# EAGLE library part 10129378-91002BLF (library 10129378-91002BLF-CN5)
MOLEX - 22-28-4080 - CONNECTOR, HEADER, 8POS, 1ROW, 2.54MM
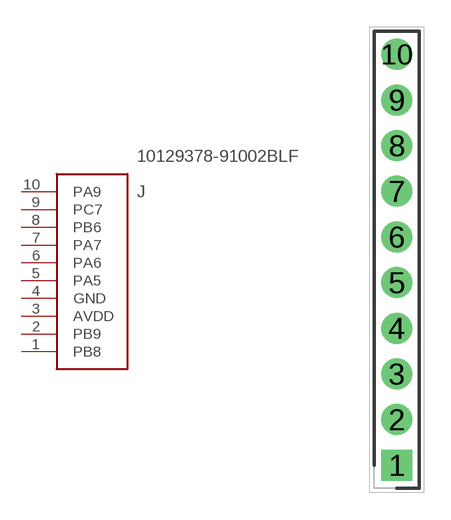
[diagram p0: symbol with the pads of HDRV6W66P0X254_1X6_1524X249X83; footprint HDRV6W66P0X254_1X6_1524X249X83]

Designator prefix J

## 10129378-91002BLF  [HDRV6W66P0X254_1X6_1524X249X83]
1  PB8
2  PB9
3  AVDD  nc
4  GND  pwr
5  PA5
6  PA6
7  PA7
8  PB6
9  PC7
10  PA9

## Footprint HDRV6W66P0X254_1X6_1524X249X83 (pad centres in mm)
10129378-91002BLF-CN5
drill 1.15 pad 1.725 square: 1 0,-8.89
drill 1.15 pad 1.725: 2 0,-6.35; 3 0,-3.81; 4 0,-1.27; 5 0,1.27; 6 0,3.81; 7 0,6.35; 8 0,8.89; 9 0,11.43; 10 0,13.97